# Altium schematic symbol library AB-RTCMK-32.SchLib: 1 symbol
Pins are listed as number, name and electrical type; pins without a type are passive.

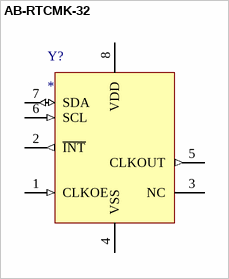
[diagram p0: symbol AB-RTCMK-32]

## AB-RTCMK-32
designator Y?
RTC Module with Integrated 32.768kHz TCXO
pins: 1 CLKOE (in), 2 ~{INT} (out), 3 NC, 4 VSS (power), 5 CLKOUT (out), 6 SCL (in), 7 SDA (io), 8 VDD (power)